# Altium footprint library Ground_Support_PcbLib.PcbLib: 16 footprints
Each footprint in its own frame and in the unit in brackets; x right, y up, seen from the top. Pads: shape width x height; smd on the part's side, far side on the other; paste and mask are expansions set on the pad; w line width, h text height; cw(c..) or ccw(c..) is an arc to the next point about the centre after c.
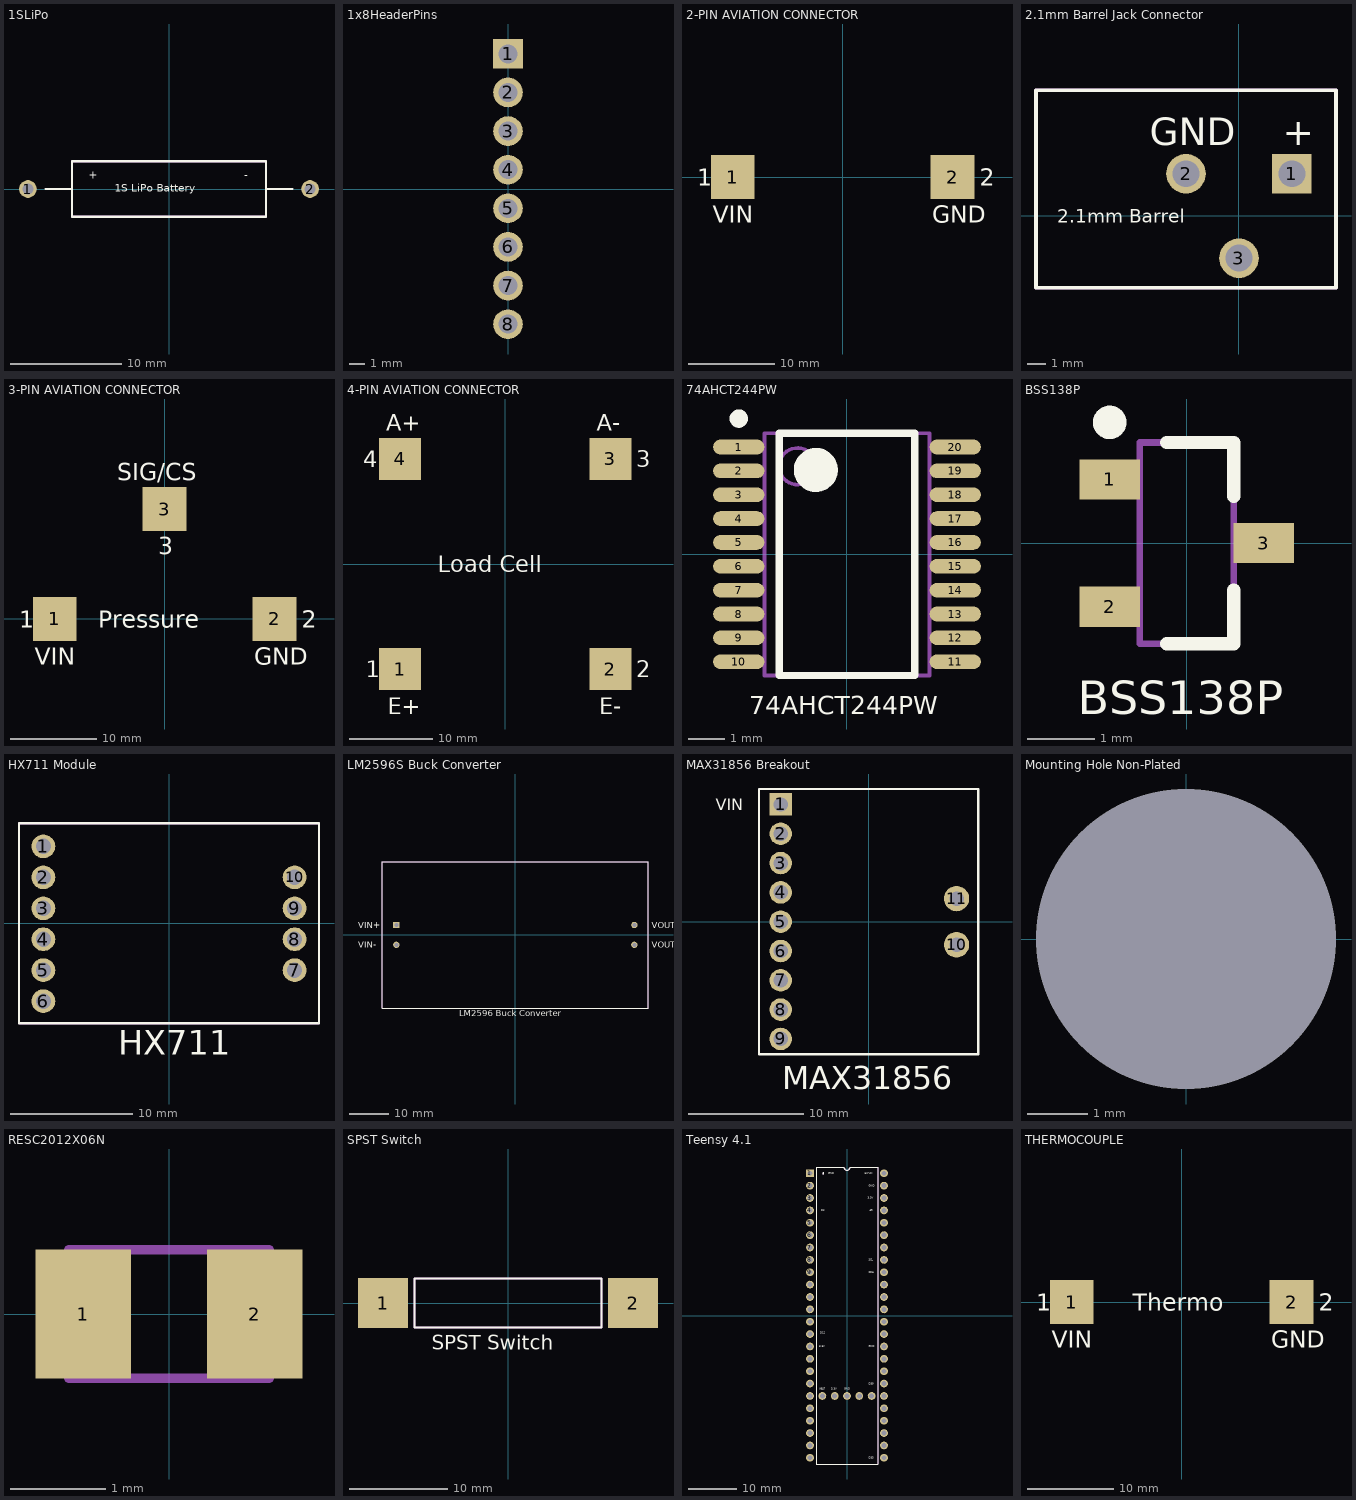
[diagram p0: the footprints below, top view; thin cyan lines are the x and y axes]

## 1SLiPo [mm]
pads (2):
  round 1.6 hole 1: 1(-12.7,0) 2(12.7,0)
Top Overlay:
  lines w0.2: -11.1,0 -8.725,0 ; 8.725,0 11.1,0 ; -8.725,0 -8.725,2.5 8.725,2.5 8.725,-2.5 -8.725,-2.5 -8.725,0
  text "1S LiPo Battery" at -4.898,-0.233 h0.7
  text "+" at -7.233,0.9 h0.7
  text "-" at 6.767,0.9 h0.7
Top Assembly:
  lines w0.2: -11.1,0 -8.725,0 ; 8.725,0 11.1,0 ; -8.725,0 -8.725,2.5 8.725,2.5 8.725,-2.5 -8.725,-2.5 -8.725,0
  text ".Designator" at -3.499,-0.233 h0.7

## 1x8HeaderPins [mm]
pads (8):
  rect 1.95x1.95 hole 1.25: 1(0,8.89)
  round 1.95 hole 1.25: 2(0,6.35) 3(0,3.81) 4(0,1.27) 5(0,-1.27) 6(0,-3.81) 7(0,-6.35) 8(0,-8.89)
3D body "Pin Header 1x8 TH Pitch 2.54mm.stp": height 9.5, standoff -3.2, extent -1.27,-10.287 1.27,10.033

## 2-PIN AVIATION CONNECTOR [mm]
pads (2):
  rect 5.08x5.08 smd: 1(-12.7,0) 2(12.7,0)
Top Overlay:
  text "1" at -16.833,-1 h2
  text "2" at 15.834,-1 h2
  text "VIN" at -14.999,-5.3 h2
  text "GND" at 10.334,-5.3 h2

## 2.1mm Barrel Jack Connector [mm]
pads (3):
  rect 2.2x2.2 hole 1.5: 1(2.95,2.35)
  round 2.2 hole 1.5: 2(-2.95,2.35) 3(0,-2.35)
Top Overlay:
  lines w0.2: -11.3,-4 5.4,-4 5.4,7 -11.3,7 -11.3,-4
  text "GND" at -4.981,3.938 h1.52
  text "+" at 2.442,3.938 h1.52
  text "2.1mm Barrel" at -10.124,-0.375 h0.75
Top Assembly:
  lines w0.2: -11.3,-4 5.4,-4 5.4,7 -11.3,7 -11.3,-4
  text ".Designator" at -7.618,-0.508 h1.52
3D body "PowerBarrelConnectorJack_2_10mm_THT_RightAngle.STEP": height 10.81, standoff -3.49, extent -10.825,-2.725 3.575,6.635

## 3-PIN AVIATION CONNECTOR [mm]
pads (3):
  rect 5.08x5.08 smd: 1(-12.7,0) 2(12.7,0) 3(0,12.7)
Top Overlay:
  text "Pressure" at -7.664,-1 h2
  text "1" at -16.833,-1 h2
  text "2" at 15.834,-1 h2
  text "VIN" at -14.999,-5.3 h2
  text "GND" at 10.334,-5.3 h2
  text "SIG/CS" at -5.498,16 h2
  text "3" at -0.769,7.5 h2

## 4-PIN AVIATION CONNECTOR [mm]
pads (4):
  rect 5.08x5.08 smd: 1(-12.7,-12.7) 2(12.7,-12.7) 3(12.7,12.7) 4(-12.7,12.7)
Top Overlay:
  text "Load Cell" at -8.164,-1 h2
  text "E-" at 11.334,-18.12 h2
  text "E+" at -14.166,-18.12 h2
  text "2" at 15.834,-13.7 h2
  text "3" at 15.834,11.7 h2
  text "4" at -17.166,11.7 h2
  text "1" at -16.833,-13.7 h2
  text "A-" at 11.034,16.12 h2
  text "A+" at -14.366,16.12 h2

## 74AHCT244PW [mm] "TSOP, 20-Leads, Body 6.50x4.40mm, Pitch 0.65mm, IPC Medium Density"
height 1.1
pads (20):
  oval 1.4x0.4 smd mask+0.05: 1(-2.95,2.925) 2(-2.95,2.275) 3(-2.95,1.625) 4(-2.95,0.975) 5(-2.95,0.325) 6(-2.95,-0.325) 7(-2.95,-0.975) 8(-2.95,-1.625) 9(-2.95,-2.275) 10(-2.95,-2.925) 11(2.95,-2.925) 12(2.95,-2.275) 13(2.95,-1.625) 14(2.95,-0.975) 15(2.95,-0.325) 16(2.95,0.325) 17(2.95,0.975) 18(2.95,1.625) 19(2.95,2.275) 20(2.95,2.925)
Top Overlay:
  circle w0.25: c-2.95,3.7 r0.125
  circle w0.6: c-0.85,2.3 r0.3
  lines w0.2: -1.85,-3.3 -1.85,3.3 1.85,3.3 1.85,-3.3 -1.85,-3.3
  text "74AHCT244PW" at -2.666,-4.35 h0.5
Top Assembly:
  circle w0.1: c-1.35,2.4 r0.5
  lines w0.1: -2.25,-3.3 -2.25,3.3 2.25,3.3 2.25,-3.3 -2.25,-3.3
3D body "74AHCT244PW.step": height 1.1, standoff 0, extent -3.2,-3.3 3.2,3.3

## BSS138P [mm] "SOT23, 3-Leads, Body 2.90x2.30mm, Pitch 0.95mm, IPC Medium Density"
height 1.1
pads (3):
  rect 0.9x0.6 smd: 1(-1.15,0.95) 2(-1.15,-0.95) 3(1.15,0)
Top Overlay:
  circle w0.25: c-1.15,1.8 r0.125
  lines w0.2: -0.3,-1.5 0.7,-1.5 0.7,-0.7 ; -0.3,1.5 0.7,1.5 0.7,0.7
  text "BSS138P" at -1.624,-2.55 h0.5
Top Assembly:
  lines w0.1: -0.7,-1.5 -0.7,1.5 0.7,1.5 0.7,-1.5 -0.7,-1.5
  text ".Designator" at -7.618,-0.508 h1.52
3D body "BSS138P N-CHANNEL MOSFET.step": height 1.1, standoff 0, extent -1.3,-1.5 1.3,1.5

## HX711 Module [mm]
pads (10):
  round 1.95 hole 1.25: 1(-10.3,6.3) 2(-10.3,3.76) 3(-10.3,1.22) 4(-10.3,-1.32) 5(-10.3,-3.86) 6(-10.3,-6.4) 7(10.3,-3.86) 8(10.3,-1.32) 9(10.3,1.22) 10(10.3,3.76)
Top Overlay:
  lines w0.2: -12.3,-8.2 12.3,-8.2 12.3,8.2 -12.3,8.2 -12.3,-8.2
  text "HX711" at -4.165,-10.8 h2
Top Assembly:
  lines w0.2: -12.3,-8.2 12.3,-8.2 12.3,8.2 -12.3,8.2 -12.3,-8.2
  text ".Designator" at -7.618,-0.508 h1.52
3D body "HX711.step": height 1.5, standoff -12.3, extent -11.8,-7.7 11.8,7.7

## LM2596S Buck Converter [mm]
pads (4):
  rect 1.6x1.6 hole 1: 1(-30,2.5)
  round 1.6 hole 1: 2(-30,-2.5) 3(30,-2.5) 4(30,2.5)
Top Overlay:
  lines w0.2: -33.5,-18.5 33.5,-18.5 33.5,18.5 -33.5,18.5 -33.5,-18.5
  text "LM2596 Buck Converter" at -14.189,-20.562 h1.52
  text "VOUT-" at 34.445,-3.262 h1.52
  text "VOUT+" at 34.445,1.738 h1.52
  text "VIN-" at -39.666,-3.262 h1.52
  text "VIN+" at -39.666,1.738 h1.52
Top Assembly:
  lines w0.2: -33.5,-18.5 33.5,-18.5 33.5,18.5 -33.5,18.5 -33.5,-18.5
  text ".Designator" at -7.618,-0.508 h1.52
3D body "LM2596S_Buck_Converter.STEP": height 13.16, standoff -4.49, extent -33,-18 33,18

## MAX31856 Breakout [mm]
pads (11):
  rect 1.95x1.95 hole 1.25: 1(-7.62,10.16)
  round 1.95 hole 1.25: 2(-7.62,7.62) 3(-7.62,5.08) 4(-7.62,2.54) 5(-7.62,0) 6(-7.62,-2.54) 7(-7.62,-5.08) 8(-7.62,-7.62) 9(-7.62,-10.16)
  round 2.2 hole 1.25 mask+0.15: 10(7.62,-2)
  round 2.2 hole 1.25 paste+0 mask+0.15: 11(7.62,2)
Top Overlay:
  lines w0.2: -9.5,-11.5 9.5,-11.5 9.5,11.5 -9.5,11.5 -9.5,-11.5
  text "MAX31856" at -7.498,-14.5 h2
  text "VIN" at -13.25,9.66 h1

## Mounting Hole Non-Plated [mm]
pads (1):
  round 0 hole 5 unplated: "Mounting Hole Non-Plated"(0,0)

## RESC2012X06N [mm] "Chip Resistor, 2-Leads, Body 2.00x1.25mm, IPC Medium Density"
height 0.6
pads (2):
  rect 1x1.35 smd: 1(-0.9,0) 2(0.9,0)
Top Assembly:
  lines w0.1: -1.05,-0.675 -1.05,0.675 1.05,0.675 1.05,-0.675 -1.05,-0.675
  text ".Designator" at -3.499,-0.233 h0.7
3D body "RESC2012X06N.step": height 0.6, standoff 0, extent -1.05,-0.675 1.05,0.675

## SPST Switch [mm]
pads (2):
  rect 5.08x5.08 smd: 1(-12.7,0) 2(12.7,0)
Top Overlay:
  lines w0.2: -9.5,-2.5 -9.5,2.5 9.5,2.5 9.5,-2.5 -9.5,-2.5
  text "SPST Switch" at -7.747,-4.75 h1.5
Top Assembly:
  lines w0.2: -9.5,-2.5 9.5,-2.5 9.5,2.5 -9.5,2.5 -9.5,-2.5
  text ".Designator" at -7.618,-0.508 h1.52

## Teensy 4.1 [mm]
pads (53):
  rect 1.6x1.6 hole 1: 1(-7.6,29.21)
  round 1.6 hole 1: 2(-7.6,26.67) 3(-7.6,24.13) 4(-7.6,21.59) 5(-7.6,19.05) 6(-7.6,16.51) 7(-7.6,13.97) 8(-7.6,11.43) 9(-7.6,8.89) 10(-7.6,6.35) 11(-7.6,3.81) 12(-7.6,1.27) 13(-7.6,-1.27) 14(-7.6,-3.81) 15(-7.6,-6.35) 16(-7.6,-8.89) 17(-7.6,-11.43) 18(-7.6,-13.97) 19(-7.6,-16.51) 20(-7.6,-19.05) 21(-7.6,-21.59) 22(-7.6,-24.13) 23(-7.6,-26.67) 24(-7.6,-29.21) 25(7.6,-29.21) 26(7.6,-26.67) 27(7.6,-24.13) 28(7.6,-21.59) 29(7.6,-19.05) 30(7.6,-16.51) 31(7.6,-13.97) 32(7.6,-11.43) 33(7.6,-8.89) 34(7.6,-6.35) 35(7.6,-3.81) 36(7.6,-1.27) 37(7.6,1.27) 38(7.6,3.81) 39(7.6,6.35) 40(7.6,8.89) 41(7.6,11.43) 42(7.6,13.97) 43(7.6,16.51) 44(7.6,19.05) 45(7.6,21.59) 46(7.6,24.13) 47(7.6,26.67) 48(7.6,29.21) 49(-5.06,-16.51) 50(-2.53,-16.51) 51(0,-16.51) 52(2.53,-16.51) 53(5.06,-16.51)
Top Overlay:
  circle w0.254: c-4.85,29.21 r0.1
  lines w0.2: -6.3,-30.48 6.3,-30.48 6.3,30.48 0.635,30.48 cw(c0,30.48) -0.635,30.48 -6.3,30.48 -6.3,-30.48
  text "SDA" at 4.467,8.69 h0.4
  text "SCL" at 4.467,11.23 h0.4
  text "D39" at 4.467,-14.17 h0.4
  text "D33" at 4.467,-29.41 h0.4
  text "GND" at 4.467,-6.55 h0.4
  text "GND" at -3.876,29.01 h0.4
  text "3.3V" at 4.3,23.93 h0.4
  text "D2" at -5.333,21.39 h0.4
  text "GND" at -0.533,-15.2 h0.4
  text "VBAT" at -5.733,-15.2 h0.4
  text "5V/VIN" at 3.6,29.025 h0.4
  text "D12" at -5.5,-3.7 h0.4
  text "3.3V" at -3.2,-15.2 h0.4
  text "GND" at 4.467,26.47 h0.4
  text "3.3V" at -5.7,-6.55 h0.4
  text "A9" at 4.667,21.39 h0.4
Top Assembly:
  circle w0.254: c-4.85,29.21 r0.1
  lines w0.2: -6.3,-30.48 6.3,-30.48 6.3,30.48 0.635,30.48 cw(c0,30.48) -0.635,30.48 -6.3,30.48 -6.3,-30.48
  text ".Designator" at -3.499,-0.233 h0.7
3D body "Teensy_4.1.step": height 2.45, standoff -10.11, extent -9.09,-30.61 8.69,31.05

## THERMOCOUPLE [mm]
pads (2):
  rect 5.08x5.08 smd: 1(-12.7,0) 2(12.7,0)
Top Overlay:
  text "GND" at 10.334,-5.3 h2
  text "VIN" at -14.999,-5.3 h2
  text "2" at 15.834,-1 h2
  text "1" at -16.833,-1 h2
  text "Thermo" at -5.665,-1 h2